# Altium schematic symbol library Schematic_Library.SchLib: 38 symbols (part 1 of 2)
Pins are listed as number, name and electrical type; pins without a type are passive.

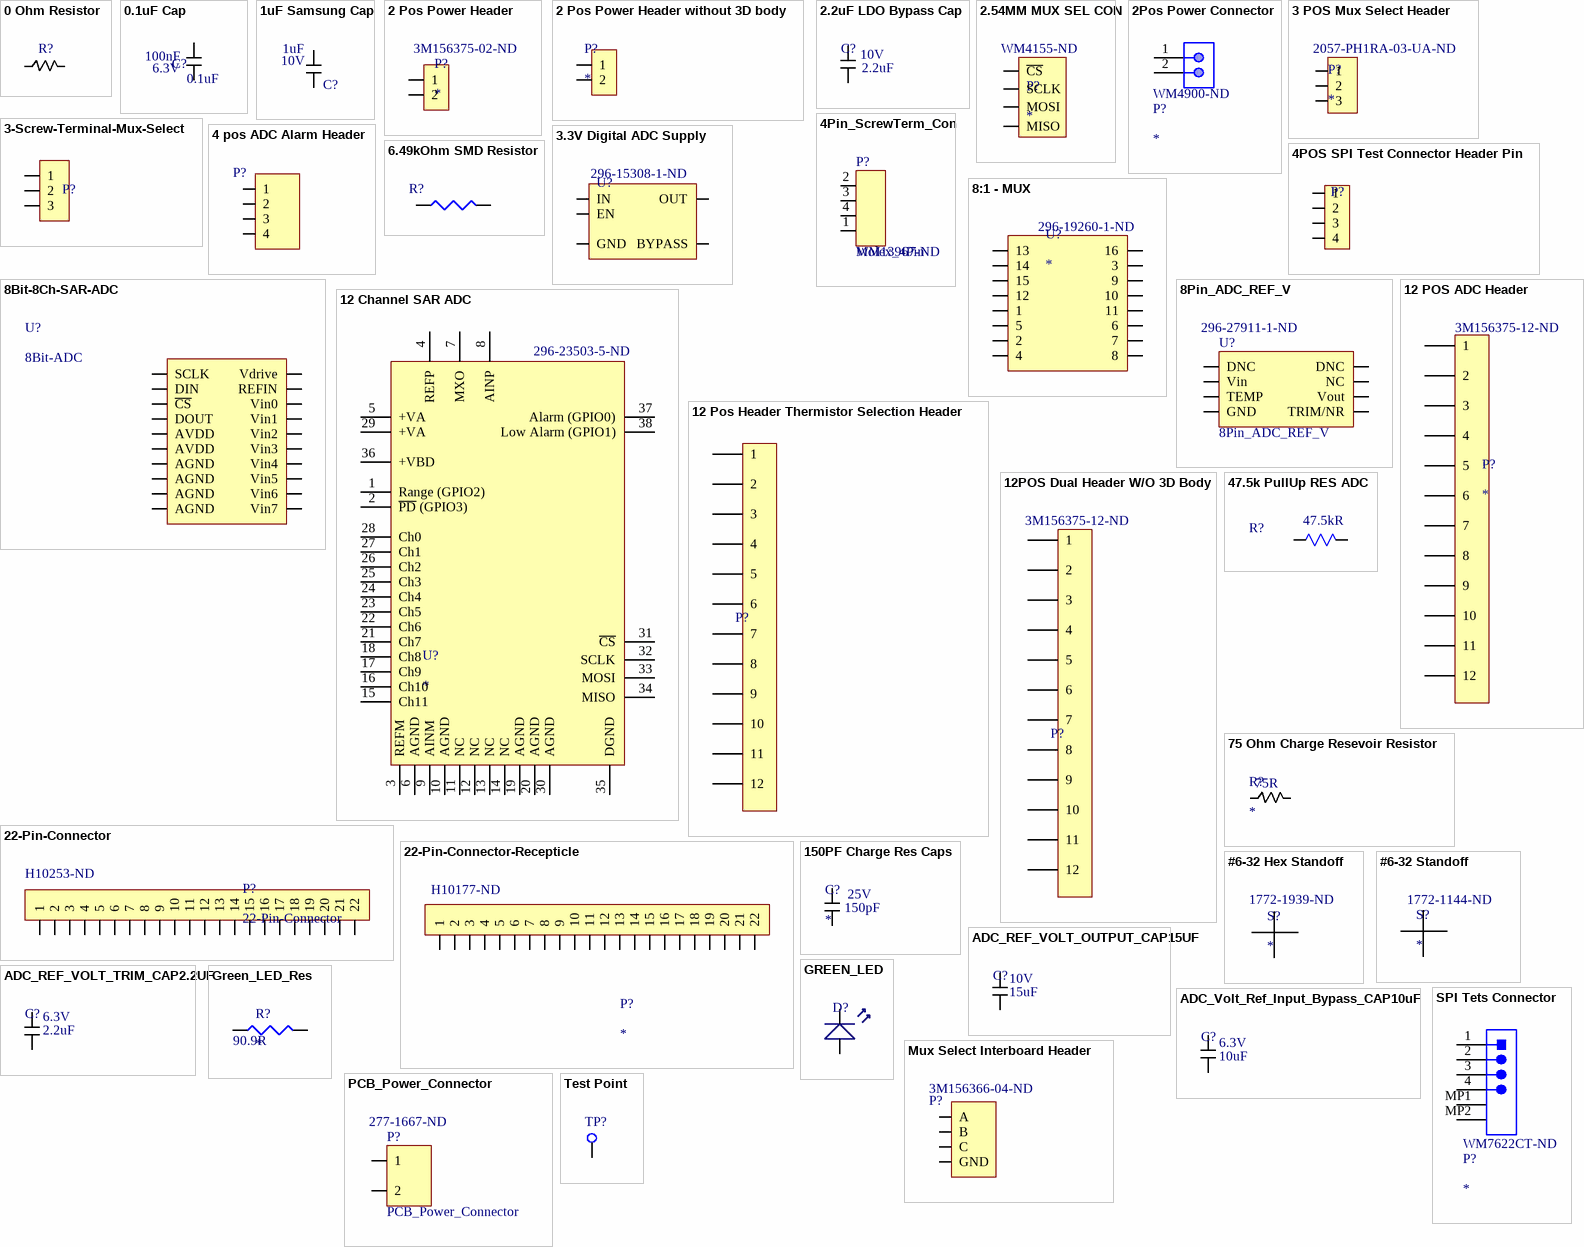
[diagram p0: symbols 0 Ohm Resistor to Test Point]

## 0 Ohm Resistor
designator R?  (value not drawn)
0 Ohm Resistor for connecting polygon pours
footprint 0 Ohm Resistor
pins: 1, 2

## 0.1uF Cap
designator C?, comment 0.1uF  Capacitance: 100nF  Voltage Rating: 6.3V
0.1uF Bypass Cap; Manufacturer: KEMET; Manufacturer Part Number: C0603C104K9RACTU; Dielectric Material: Ceramic; Tolerance: 10%; Dielectric: X7R; Dissipation Factor: 5%; RoHS: Yes; Mount: Surface Mount; Case/Package: 0603; Case Code (Imperial): 0603; Case Code (Metric): 1608; Min Operating Temperature: -55°C; Max Operating Temperature: 125°C; Package Quantity: 4000; Packaging: Tape and Reel; Voltage Rating (DC): 6.3V; Termination: SMD/SMT; Length: 1.6mm; Height: 0.8mm; Width: 0.8mm; Thickness: 0.034inch; ComponentLink1URL: https://datasheet.ciiva.com/13371/kem-c1002-x7r-smd-357932-13371879.pdf?src-supplier=Mouser; ComponentLink1Description: https://datasheet.ciiva.com/13371/kem-c1002-x7r-smd-357932-13371879.pdf?src-supplier=Mouser; Supplier 1: Digi-Key; Stock 1: 758; Pricing 1: 1=0.19000, 10=0.13800, 100=0.06480, 500=0.04546, 1000=0.03763 (USD); Supplier Part Number 1: 399-15351-1-ND
footprint 0.1uF Bypass Capacitor (Chip Capacitor, 2-Leads, Body 1.60x0.80mm, IPC Medium Density)
pins: 1, 2

## 1uF Samsung Cap
designator C?, comment Voltage Rating: 10V  (hidden comment: 1uF)
1uF Samsung Cap; Manufacturer Part Number: CL10B105KP8NNNC; Tolerance: 10%; Dielectric: X7R; Manufacturer: Samsung; Mount: Surface Mount; Case/Package: 0603; Case Code (Metric): 1608; Case Code (Imperial): 0603; Contact Plating: Tin; Min Operating Temperature: -55°C; Max Operating Temperature: 125°C; Package Quantity: 1; Packaging: Tape and Reel; Voltage Rating (DC): 10V; Length: 1.6mm; Height: 0.8mm; Width: 0.031inch; Thickness: 0.035inch; Depth: 0.8mm; Radiation Hardening: No; Lead Free: Lead Free; ComponentLink1URL: https://media.digikey.com/pdf/Data%20Sheets/Samsung%20PDFs/CL_Series_MLCC_ds.pdf?src-supplier=Digi-Key; ComponentLink1Description: https://media.digikey.com/pdf/Data%20Sheets/Samsung%20PDFs/CL_Series_MLCC_ds.pdf?src-supplier=Digi-Key; ComponentLink2URL: http://www1.futureelectronics.com/doc/SAMSUNG/CL10B105KP8NNNC.pdf?src-supplier=Future+Electronics; ComponentLink2Description: http://www1.futureelectronics.com/doc/SAMSUNG/CL10B105KP8NNNC.pdf?src-supplier=Future+Electronics; ComponentLink3URL: https://www.verical.com/server-webapp/html/getDatasheet?partID=358410&src-supplier=Verical; ComponentLink3Description: https://www.verical.com/server-webapp/html/getDatasheet?partID=358410&src-supplier=Verical; Supplier 1: Digi-Key; Stock 1: 10781730; Pricing 1: 1=0.1, 10=0.052, 100=0.0233, 500=0.0166, 1000=0.0131 (USD); Supplier Part Number 1: 1276-1946-1-ND; Capacitance: 1uF
footprint 1uf_Samsung
pins: 1, 2

## 2 Pos Power Header
designator P?  Supplier Part Number 1: 3M156375-02-ND
Manufacturer: 3M; Manufacturer Part Number: 929715-06-01-EU; Gender: Male; Number of Positions: 2; Connector Type: Male Pin; Current Rating: 2.5A; Pitch: 2.54mm; Row Spacing: 0.1inch; Supplier 1: Digi-Key; Stock 1: 0; Pricing 1: 1=0.43000, 10=0.40200, 25=0.34480, 50=0.29300, 100=0.28160, 250=0.25284, 500=0.24136 (USD); RoHS: Yes; Mount: Through Hole; Contact Plating: Gold; Color: Black; Contact Material: Copper Alloy; Housing Material: Polycyclohexylenedimethylene; Min Operating Temperature: -40°C; Max Operating Temperature: 105°C; Number of Rows: 2; Packaging: Bulk; Termination: Solder; Package Quantity: 1000; Contact Gender: Male; Contact Mating Length: 0.318inch; ComponentLink1URL: https://datasheet.ciiva.com/5147/ts0769-35914-5147696.pdf?src-supplier=Mouser; ComponentLink1Description: https://datasheet.ciiva.com/5147/ts0769-35914-5147696.pdf?src-supplier=Mouser; ComponentLink2URL: https://datasheet.ciiva.com/6818/ts0769-6818155.pdf?src-supplier=Digi-Key; ComponentLink2Description: https://datasheet.ciiva.com/6818/ts0769-6818155.pdf?src-supplier=Digi-Key
footprint 2 POS Power Header (Connecting Power between boards)
pins: 1, 2

## 2 Pos Power Header without 3D body
designator P?
No supplier part for this schematic symbol, only here to create board to board holes for the power header
footprint 2 Pos Power Header - duplicate (Without 3D body,)
pins: 1, 2

## 2.2uF LDO Bypass Cap
designator C?  Capacitance: 2.2uF  Voltage Rating: 10V  (hidden comment: *)
2.2µF ±10% 10V Ceramic Capacitor X7R 0805 (2012 Metric); Manufacturer: KEMET; Manufacturer Part Number: C0805C225K8RACAUTO; Supplier 1: Digi-Key; Stock 1: 53616; Pricing 1: 1=0.25000, 10=0.17200, 100=0.09770, 500=0.06898, 1000=0.06035 (USD); RoHS: Yes; Mount: Surface Mount; Case/Package: 0805; Case Code (Metric): 2012; Case Code (Imperial): 0805; Dielectric Material: Ceramic; Min Operating Temperature: -55°C; Max Operating Temperature: 125°C; Tolerance: 10%; Package Quantity: 1; Packaging: Cut Tape; Dielectric: X7R; Voltage Rating (DC): 10V; Length: 2mm; Height: 1.25mm; Width: 0.049inch; Thickness: 0.055inch; Depth: 1.25mm; Ratings: AEC-Q200; Radiation Hardening: No; REACH SVHC: No SVHC; ComponentLink1URL: http://www.farnell.com/datasheets/2741162.pdf?src-supplier=Farnell; ComponentLink1Description: http://www.farnell.com/datasheets/2741162.pdf?src-supplier=Farnell; ComponentLink2URL: http://components.arrow.com/part/dataview/0323_00327875?src-supplier=Arrow+Europe; ComponentLink2Description: http://components.arrow.com/part/dataview/0323_00327875?src-supplier=Arrow+Europe; ComponentLink3URL: http://components.arrow.com/part/dataview/43510464S9781270N7429?src-supplier=Arrow; ComponentLink3Description: http://components.arrow.com/part/dataview/43510464S9781270N7429?src-supplier=Arrow; ComponentLink4URL: http://www.farnell.com/datasheets/2741162.pdf?src-supplier=Newark; ComponentLink4Description: http://www.farnell.com/datasheets/2741162.pdf?src-supplier=Newark; ComponentLink5URL: http://www.farnell.com/datasheets/2120827.pdf?src-supplier=Element14; ComponentLink5Description: http://www.farnell.com/datasheets/2120827.pdf?src-supplier=Element14; ComponentLink6URL: http://capacitoredge.kemet.com/capedge2/DataSheet?pn=C0805C225K8RACAUTO&src-supplier=Avnet+Europe; ComponentLink6Description: http://capacitoredge.kemet.com/capedge2/DataSheet?pn=C0805C225K8RACAUTO&src-supplier=Avnet+Europe; ComponentLink7URL: https://search.kemet.com/component-edge/download/specsheet/C0805C225K8RACAUTO.pdf?src-supplier=Digi-Key; ComponentLink7Description: https://search.kemet.com/component-edge/download/specsheet/C0805C225K8RACAUTO.pdf?src-supplier=Digi-Key; ComponentLink8URL: https://api.kemet.com/component-edge/download/datasheet/C0805C225K8RACAUTO.pdf?src-supplier=Digi-Key; ComponentLink8Description: https://api.kemet.com/component-edge/download/datasheet/C0805C225K8RACAUTO.pdf?src-supplier=Digi-Key; Supplier Part Number 1: 399-6951-1-ND
footprint 2.2uF LDO Output Bypass Cap (2.2µF ±10% 10V Ceramic Capacitor X7R 0805 (2012 Metric))
pins: 1, 2

## 2.54MM MUX SEL CON
designator P?  Supplier Part Number 1: WM4155-ND
SPI Connector; Manufacturer: Molex; Manufacturer Part Number: 0705530108; Contact Resistance: 30mR; Number of Positions: 4; Connector Type: Male Pin; Pitch: 0.1inch; Voltage Rating: 250V; Current Rating: 3A; Gender: Male; Insulation Resistance: 1GR; Glow Wire Compliant: Non-compliant; Supplier 1: Digi-Key; Stock 1: 1281; Mount: Through Hole; Contact Plating: Gold; Contact Material: Bronze; Housing Material: Polyester; Color: Black; Housing Color: Black; Min Operating Temperature: -40°C; Max Operating Temperature: 105°C; Number of Rows: 1; Packaging: Rail/Tube; Termination: Solder; Orientation: Right Angle; Fastening Type: Latch; Length: 12.71mm; Contact Mating Length: 0.24inch; Depth: 13.59mm; Radiation Hardening: No; ComponentLink1URL: https://www.molex.com/pdm_docs/ps/PS-70400.pdf?src-supplier=Digi-Key; ComponentLink1Description: https://www.molex.com/pdm_docs/ps/PS-70400.pdf?src-supplier=Digi-Key; ComponentLink2URL: http://www.molex.com/webdocs/datasheets/pdf/en-us/0705530108_PCB_HEADERS.pdf?src-supplier=Avnet+Asia; ComponentLink2Description: http://www.molex.com/webdocs/datasheets/pdf/en-us/0705530108_PCB_HEADERS.pdf?src-supplier=Avnet+Asia; Pricing 1: 1=2.03, 10=1.838, 100=1.575, 500=1.3125, 1680=1.0875, 5040=0.9975, 10080=0.975 (USD); Material: Brass; Package Quantity: 1680; Number of Contacts: 4; Voltage Rating (DC): 250V; Number of Circuits: 4; REACH SVHC: Unknown; ELV: Compliant; Flammability Rating: UL94 V-0; ComponentLink3URL: http://www.farnell.com/datasheets/2027073.pdf?src-supplier=Element14; ComponentLink3Description: http://www.farnell.com/datasheets/2027073.pdf?src-supplier=Element14; ComponentLink4URL: http://www.molex.com/webdocs/datasheets/pdf/en-us/0705530108_PCB_HEADERS.pdf?src-supplier=Avnet; ComponentLink4Description: http://www.molex.com/webdocs/datasheets/pdf/en-us/0705530108_PCB_HEADERS.pdf?src-supplier=Avnet; ComponentLink5URL: http://www.mouser.com/ds/2/276/0705530108_PCB_HEADERS-172949.pdf?src-supplier=Mouser; ComponentLink5Description: http://www.mouser.com/ds/2/276/0705530108_PCB_HEADERS-172949.pdf?src-supplier=Mouser
footprint 4POS 2.54MM HEADER MUX SEL
pins: 1 MISO, 2 MOSI, 3 SCLK, 4 ~{CS}

## 2Pos Power Connector
designator P?  Supplier Part Number 1: WM4900-ND
Headers & Wire Housings R/A HDR 2P low profile single; Manufacturer: Molex; Manufacturer Part Number: 70553-0001; Current Rating: 3A; Voltage Rating: 250V; Contact Resistance: 30mR; Number of Positions: 2; Gender: Male; Insulation Resistance: 1GR; Pitch: 2.54mm; Approvals: UL; Glow Wire Compliant: Non-compliant; Supplier 1: Digi-Key; Stock 1: 8671; Pricing 1: 1=0.71000, 72=0.53486, 144=0.51264, 504=0.44575, 1008=0.36775, 5040=0.32318, 10008=0.30089 (USD); RoHS: Yes; Mount: Through Hole; Contact Material: Bronze; Contact Plating: Gold; Color: Black; Housing Color: Black; Material: Brass; Housing Material: Thermoplastic; Min Operating Temperature: -40°C; Max Operating Temperature: 105°C; Package Quantity: 2880; Number of Rows: 1; Packaging: Rail/Tube; Termination: Through Hole; Number of Contacts: 2; Orientation: Right Angle; Number of Circuits: 2; Voltage Rating (DC): 250V; Radiation Hardening: No; REACH SVHC: Unknown; Lead Free: Lead Free; Flammability Rating: UL94 V-0; ELV: Compliant; ComponentLink1URL: https://datasheet.ciiva.com/5158/0705530001-pcb-headers-172944-5158768.pdf?src-supplier=Mouser; ComponentLink1Description: https://datasheet.ciiva.com/5158/0705530001-pcb-headers-172944-5158768.pdf?src-supplier=Mouser; ComponentLink2URL: https://datasheet.ciiva.com/11746/0900766b80d8d649-11746625.pdf?src-supplier=RSComponents; ComponentLink2Description: https://datasheet.ciiva.com/11746/0900766b80d8d649-11746625.pdf?src-supplier=RSComponents; ComponentLink3URL: https://datasheet.ciiva.com/16657/0705530001-pcb-headers-16657777.pdf?src-supplier=Avnet+Europe; ComponentLink3Description: https://datasheet.ciiva.com/16657/0705530001-pcb-headers-16657777.pdf?src-supplier=Avnet+Europe; ComponentLink4URL: https://datasheet.ciiva.com/7920/ps-70541-7920854.pdf?src-supplier=Element14; ComponentLink4Description: https://datasheet.ciiva.com/7920/ps-70541-7920854.pdf?src-supplier=Element14; ComponentLink5URL: https://datasheet.ciiva.com/30195/179180705530001-pcb-headers-30195548.pdf?src-supplier=Onlinecomponents.com; ComponentLink5Description: https://datasheet.ciiva.com/30195/179180705530001-pcb-headers-30195548.pdf?src-supplier=Onlinecomponents.com; ComponentLink6URL: https://datasheet.ciiva.com/1438/1887076-1438989.pdf?src-supplier=Element14; ComponentLink6Description: https://datasheet.ciiva.com/1438/1887076-1438989.pdf?src-supplier=Element14; ComponentLink7URL: https://datasheet.ciiva.com/10090/0705530001-pcb-headers-10090317.pdf?src-supplier=Avnet; ComponentLink7Description: https://datasheet.ciiva.com/10090/0705530001-pcb-headers-10090317.pdf?src-supplier=Avnet
footprint 2Pos Power Connector
pins: 1, 2

## 3 POS Mux Select Header
designator P?  Supplier Part Number 1: 2057-PH1RA-03-UA-ND
Mux Sel Header TP; Manufacturer: Adam Equipment; Manufacturer Part Number: PH1RA-03-UA; ComponentLink1URL: https://datasheet.ciiva.com/16476/page-292-295-16476086.pdf?src-supplier=Future+Electronics; ComponentLink1Description: https://datasheet.ciiva.com/16476/page-292-295-16476086.pdf?src-supplier=Future+Electronics; ComponentLink2URL: https://datasheet.ciiva.com/7844/1839348-7844064.pdf?src-supplier=Element14; ComponentLink2Description: https://datasheet.ciiva.com/7844/1839348-7844064.pdf?src-supplier=Element14; ComponentLink3URL: https://datasheet.ciiva.com/30056/8400705530108-pcb-headers-30056885.pdf?src-supplier=Onlinecomponents.com; ComponentLink3Description: https://datasheet.ciiva.com/30056/8400705530108-pcb-headers-30056885.pdf?src-supplier=Onlinecomponents.com; ComponentLink4URL: https://datasheet.ciiva.com/5153/0705530108-pcb-headers-172949-5153278.pdf?src-supplier=Mouser; ComponentLink4Description: https://datasheet.ciiva.com/5153/0705530108-pcb-headers-172949-5153278.pdf?src-supplier=Mouser; ComponentLink5URL: https://datasheet.ciiva.com/10088/0705530108-pcb-headers-10088822.pdf?src-supplier=Avnet; ComponentLink5Description: https://datasheet.ciiva.com/10088/0705530108-pcb-headers-10088822.pdf?src-supplier=Avnet; RoHS: Yes; Lead Free: Lead Free; Supplier 1: Digi-Key; Stock 1: 1048; Pricing 1: 1=0.12000, 10=0.11400, 100=0.07030, 500=0.05818, 1000=0.05090, 5000=0.04363, 10000=0.04242 (USD)
footprint Mux Select 3 Pos Header Pin
pins: 1, 2, 3

## 3-Screw-Terminal-Mux-Select
designator P?  (value not drawn)
Mux Select; Manufacturer: Wurth Electronics; Manufacturer Part Number: 691103110003; Voltage Rating: 125V; Current Rating: 10A; Number of Levels: 1; Number of Positions Per Level: 3; Wire/Cable Gauge: 26AWG; Pitch: 0.138inch; Stripping Length: -6mm; Supplier 1: Digi-Key; Stock 1: 617; Pricing 1: 1=1.1, 10=0.986, 50=0.851, 100=0.762, 500=0.717, 980=0.672 (USD); Contact Material: Brass; Color: Blue; Housing Material: Nylon; Number of Contacts: 3; Termination: Screw; Length: 7mm; Height: 12.2mm; Width: 11.5mm; REACH SVHC: Unknown; ComponentLink1URL: http://www.farnell.com/datasheets/1442217.pdf?src-supplier=Element14; ComponentLink1Description: http://www.farnell.com/datasheets/1442217.pdf?src-supplier=Element14; Supplier Part Number 1: 732-2746-ND
footprint 3-Screw-terminal-Mux-Select
pins: 1 "Output1", 2 "Output1", 3 "Output1"

## 3.3V Digital ADC Supply
designator U?  Supplier Part Number 1: 296-15308-1-ND  (hidden comment: *)
Linear Voltage Regulator IC  1 Output  200mA SOT-23-5; Manufacturer: Texas Instruments; Manufacturer Part Number: TPS79333DBVRQ1; Output Voltage: 3.3V; Number of Outputs: 1; Max Supply Voltage: 5.5V; Min Supply Voltage: 2.7V; Dropout Voltage: 102mV; Max Power Dissipation: 561mW; Input Bias Current: 170uA; Min Current Limit: 285mA; Polarity: Positive; Quiescent Current: 200uA; Output Voltage Accuracy: 2%; Output Type: Fixed; Supplier 1: Digi-Key; Stock 1: 3595; Pricing 1: 1=0.86000, 10=0.75600, 100=0.53820, 500=0.43510, 1000=0.33205 (USD); RoHS: Yes; Case/Package: SOT-23; Number of Pins: 5; Contact Plating: Gold; Min Operating Temperature: -40°C; Max Operating Temperature: 125°C; Package Quantity: 1; Output Current: 200mA; Packaging: Tape and Reel; Nominal Output Voltage: 3.3V; Max Output Current: 200mA; Max Input Voltage: 5.5V; Min Input Voltage: 2.7V; Number of Regulators: 1; Power Dissipation: 561mW; Min Output Voltage: 3.3V; Max Output Voltage: 3.3V; Termination: SMD/SMT; Accuracy: 2%; Radiation Hardening: No; Lead Free: Lead Free; REACH SVHC: No SVHC; ComponentLink1URL: https://datasheet.ciiva.com/14277/tps79301-q1-14277552.pdf?src-supplier=Avnet; ComponentLink1Description: https://datasheet.ciiva.com/14277/tps79301-q1-14277552.pdf?src-supplier=Avnet; ComponentLink2URL: https://datasheet.ciiva.com/22700/1845238-22700085.pdf?src-supplier=Element14; ComponentLink2Description: https://datasheet.ciiva.com/22700/1845238-22700085.pdf?src-supplier=Element14; ComponentLink3URL: https://datasheet.ciiva.com/7993/1781686-7993219.pdf?src-supplier=Element14; ComponentLink3Description: https://datasheet.ciiva.com/7993/1781686-7993219.pdf?src-supplier=Element14; ComponentLink4URL: https://datasheet.ciiva.com/28684/1887604-28684539.pdf?src-supplier=Element14; ComponentLink4Description: https://datasheet.ciiva.com/28684/1887604-28684539.pdf?src-supplier=Element14
footprint 3.3V Dig ADC Supply (Linear Voltage Regulator IC  1 Output  200mA SOT-23-5)
pins: 1 IN, 2 GND, 3 EN, 4 BYPASS, 5 OUT

## 4 pos ADC Alarm Header
designator P?  (value not drawn)
Connector Header Through Hole, Right Angle 4 position 0.100" (2.54mm); Manufacturer: Molex; Manufacturer Part Number: 0705530108; Contact Resistance: 30mR; Number of Positions: 4; Connector Type: Male Pin; Pitch: 0.1inch; Supplier 1: Digi-Key; Stock 1: 858; Pricing 1: 1=2.03000, 10=1.83800, 100=1.57500, 500=1.31250, 1000=1.12500, 5000=0.99750, 10000=0.97500 (USD); RoHS: Yes; Mount: Through Hole; Contact Plating: Gold; Contact Material: Bronze; Housing Material: Polyester; Color: Black; Housing Color: Black; Min Operating Temperature: -40°C; Max Operating Temperature: 105°C; Number of Rows: 1; Packaging: Rail/Tube; Termination: Solder; Orientation: Right Angle; Fastening Type: Latch; Length: 12.71mm; Contact Mating Length: 0.24inch; Depth: 13.59mm; Radiation Hardening: No; ComponentLink1URL: https://datasheet.ciiva.com/6829/705530106-sd-6829901.pdf?src-supplier=Digi-Key; ComponentLink1Description: https://datasheet.ciiva.com/6829/705530106-sd-6829901.pdf?src-supplier=Digi-Key; ComponentLink2URL: https://datasheet.ciiva.com/16498/0705530108-pcb-headers-16498173.pdf?src-supplier=Avnet+Asia; ComponentLink2Description: https://datasheet.ciiva.com/16498/0705530108-pcb-headers-16498173.pdf?src-supplier=Avnet+Asia; Supplier Part Number 1: WM4155-ND
footprint 4POS 2.54MM HEADER MUX SEL
pins: 1, 2, 3, 4

## 4Pin_ScrewTerm_Con
designator P?, comment Molex_4Pin  Supplier Part Number 1: WM13967-ND
Supplier 1: Digi-Key
footprint MUX_SEL_CON
pins: 1, 2, 3, 4

## 4POS SPI Test Connector Header Pin
designator P?  (value not drawn)
Connector Header Through Hole, Right Angle 4 position 0.100" (2.54mm); Manufacturer: TE Connectivity; Manufacturer Part Number: 640455-4; Underplate Material: Nickel; Contact Resistance: 6mR; Current Rating: 5A; Voltage Rating: 250V; Number of Positions: 4; Connector Type: Plug,Header,Pin; Backwall/Post Interruptions: No (Without); Connector System: Wire-to-Board; Plating Thickness: 3.81um; PCB Mount Retention: Without; Contact Post Length: 3.56mm; PCB Thickness: 0.063inch; Approvals: CSA; Supplier 1: Digi-Key; Stock 1: 4333; Pricing 1: 1=0.14000, 10=0.12700, 100=0.08780, 500=0.07430, 1000=0.06080, 5000=0.05404, 10000=0.05066 (USD); RoHS: Yes; Mount: Through Hole; Contact Material: Copper Alloy; Contact Plating: Tin; Color: Natural,Beige; Housing Color: Natural; Housing Material: Polyester; Contact Shape: Square; Min Operating Temperature: -67°C; Max Operating Temperature: 221°C; Number of Rows: 1; Packaging: Bulk; Package Quantity: 1; Contact Gender: Male; Max Voltage Rating (AC): 250V; Termination: Solder; Number of Contacts: 4; Orientation: Right Angle; Voltage Rating (AC): 250V; Contact Retention: No (Without); Mating Alignment: No (Without); Mating Retention: No (Without); PCB Mount Alignment: No (Without); PCB Mounting Orientation: Right Angle; Sealable: No (Without); Strain Relief: No (Without); Shrouded: No (Without); Contact Current Rating: 5A; Length: 0.4inch; Height: 7.75mm; Pitch: 2.54mm; Contact Mating Length: 0.295inch; Depth: 11.05mm; Tail Length: 3.56mm; Radiation Hardening: No; REACH SVHC: Unknown; Flammability Rating: UL94 V-0; ELV: Compliant; Lead Free: Lead Free; ComponentLink1URL: https://datasheet.ciiva.com/16499/eng-ds-82056-mta-0608-16499288.pdf?src-supplier=Future+Electronics; ComponentLink1Description: https://datasheet.ciiva.com/16499/eng-ds-82056-mta-0608-16499288.pdf?src-supplier=Future+Electronics; ComponentLink2URL: https://datasheet.ciiva.com/11752/0900766b81020fb4-11752965.pdf?src-supplier=RSComponents; ComponentLink2Description: https://datasheet.ciiva.com/11752/0900766b81020fb4-11752965.pdf?src-supplier=RSComponents; ComponentLink3URL: https://datasheet.ciiva.com/30226/8852eng-ds-82056-mta-0608-30226713.pdf?src-supplier=Onlinecomponents.com; ComponentLink3Description: https://datasheet.ciiva.com/30226/8852eng-ds-82056-mta-0608-30226713.pdf?src-supplier=Onlinecomponents.com; ComponentLink4URL: https://datasheet.ciiva.com/709/eng-cd-640455-y2-709686.pdf?src-supplier=Digi-Key; ComponentLink4Description: https://datasheet.ciiva.com/709/eng-cd-640455-y2-709686.pdf?src-supplier=Digi-Key; Supplier Part Number 1: A19452-ND
footprint 4POS SPI Test Connector
pins: 1, 2, 3, 4

## 6.49kOhm SMD Resistor
designator R?  (value not drawn)
ADC Bias Resistor; Manufacturer: Panasonic; Manufacturer Part Number: ERA6AEB6491V; Tolerance: 0.1%; Resistance: 6.49kR; Temperature Coefficient: 25ppm/°C; Power Rating: 125mW; Voltage Rating: 100V; Supplier 1: Digi-Key; Stock 1: 15147; Pricing 1: 1=0.36, 10=0.302, 100=0.1182, 1000=0.0495, 2500=0.0454 (USD); Mount: Surface Mount; Case/Package: 0805; Number of Pins: 2; Contact Plating: Tin; Case Code (Metric): 2012; Case Code (Imperial): 0805; Min Operating Temperature: -55°C; Max Operating Temperature: 155°C; Composition: Thin Film,Metal Film; Packaging: Tape and Reel; Package Quantity: 1; Number of Terminations: 2; Termination: SMD/SMT; Military Standard: Not; Max Power Dissipation: 125mW; Voltage Rating (DC): 100V; Features: Automotive AEC-Q200; Length: 2mm; Height: 0.5mm; Width: 1.25mm; Depth: 1.25mm; Radiation Hardening: No; REACH SVHC: No SVHC; Lead Free: Lead Free; ComponentLink1URL: http://www.farnell.com/datasheets/485442.pdf?src-supplier=Farnell; ComponentLink1Description: http://www.farnell.com/datasheets/485442.pdf?src-supplier=Farnell; ComponentLink2URL: http://www.mouser.com/ds/2/315/AOA0000CE26-32660.pdf?src-supplier=Mouser; ComponentLink2Description: http://www.mouser.com/ds/2/315/AOA0000CE26-32660.pdf?src-supplier=Mouser; ComponentLink3URL: http://www.farnell.com/datasheets/2059650.pdf?src-supplier=Farnell; ComponentLink3Description: http://www.farnell.com/datasheets/2059650.pdf?src-supplier=Farnell; ComponentLink4URL: http://uk.rs-online.com/webdocs/0eb1/0900766b80eb1d8c.pdf?src-supplier=RSComponents; ComponentLink4Description: http://uk.rs-online.com/webdocs/0eb1/0900766b80eb1d8c.pdf?src-supplier=RSComponents; ComponentLink5URL: http://www.farnell.com/datasheets/485442.pdf?src-supplier=Element14; ComponentLink5Description: http://www.farnell.com/datasheets/485442.pdf?src-supplier=Element14; ComponentLink6URL: http://www.produktinfo.conrad.com/datenblaetter/1100000-1199999/001181295-da-01-en-WIDERSTAND_ERA_0805_6K49_0_1__5000ST.pdf?src-supplier=Conrad; ComponentLink6Description: http://www.produktinfo.conrad.com/datenblaetter/1100000-1199999/001181295-da-01-en-WIDERSTAND_ERA_0805_6K49_0_1__5000ST.pdf?src-supplier=Conrad; Supplier Part Number 1: P6.49KDACT-ND
footprint RESC2012X06N (Chip Resistor, 2-Leads, Body 2.00x1.25mm, IPC Medium Density)
pins: 1, 2

## 8:1 - MUX
designator U?  Supplier Part Number 1: 296-19260-1-ND
Current Therm 8:1 Mux; Manufacturer: Texas Instruments; Manufacturer Part Number: SN74LV4051ATPWRQ1; Max Supply Voltage: 5.5V; Min Supply Voltage: 2V; Bandwidth: 35MHz; Propagation Delay: 7ns; Number of Channels: 1; Number of Inputs: 8; Logic Function: Multiplexer,Demultiplexer; On-State Resistance: 75R; Operating Supply Current: 20uA; Turn-On Delay Time: 20ns; Supply Type: Single; High Level Output Current: 25mA; Supplier 1: Digi-Key; Stock 1: 41099; Pricing 1: 1=0.73, 10=0.646, 100=0.4951, 500=0.3914, 1000=0.3131 (USD); Mount: Surface Mount; Case/Package: TSSOP; Number of Pins: 16; Weight: 0.002169oz; Contact Plating: Gold; Min Operating Temperature: -40°C; Max Operating Temperature: 105°C; Package Quantity: 1; Packaging: Tape and Reel; Number of Outputs: 1; Turn-Off Delay Time: 20ns; Number of Circuits: 1; Number of Bits: 8; Low Level Output Current: 25mA; Radiation Hardening: No; REACH SVHC: No SVHC; Lead Free: Lead Free; ComponentLink1URL: http://www.ti.com/lit/ds/symlink/sn74lv4051a-q1.pdf?src-supplier=Digi-Key; ComponentLink1Description: http://www.ti.com/lit/ds/symlink/sn74lv4051a-q1.pdf?src-supplier=Digi-Key; ComponentLink2URL: http://www.ti.com/lit/gpn/sn74lv4051a-q1?src-supplier=Mouser; ComponentLink2Description: http://www.ti.com/lit/gpn/sn74lv4051a-q1?src-supplier=Mouser; ComponentLink3URL: https://www.verical.com/server-webapp/html/getDatasheet?partID=137249&src-supplier=Verical; ComponentLink3Description: https://www.verical.com/server-webapp/html/getDatasheet?partID=137249&src-supplier=Verical; ComponentLink4URL: http://focus.ti.com/lit/ds/symlink/sn74lv4051a-q1.pdf?src-supplier=Avnet; ComponentLink4Description: http://focus.ti.com/lit/ds/symlink/sn74lv4051a-q1.pdf?src-supplier=Avnet; ComponentLink5URL: http://www.produktinfo.conrad.com/datenblaetter/1100000-1199999/001187277-da-01-en-IC_MUX_DE_SN74LV4051ATPWRQ1_TSSOP_16_TID.pdf?src-supplier=Conrad; ComponentLink5Description: http://www.produktinfo.conrad.com/datenblaetter/1100000-1199999/001187277-da-01-en-IC_MUX_DE_SN74LV4051ATPWRQ1_TSSOP_16_TID.pdf?src-supplier=Conrad
footprint SOP127P600X175 (SOP, 16-Leads, Body 9.90x3.90mm, Pitch 1.27mm, IPC Medium Density)
pins: 1 "Output1", 2 "Output1", 3 "Output1", 4 "Output1", 5 "Output1", 6 "Output1", 7 "Output1", 8 "Output1", 9 "Output1", 10 "Output1", 11 "Output1", 12 "Output1", 13 "Output1", 14 "Output1", 15 "Output1", 16 "Output1"

## 8Bit-8Ch-SAR-ADC
designator U?, comment 8Bit-ADC
8Bit SAR ADC; Manufacturer: Analog Devices; Manufacturer Part Number: AD7908WYRUZ-REEL7; Max Power Dissipation: 13.5mW; Number of Channels: 8; Interface: SPI; Sampling Rate: 1MS/s; Number of A/D Converters: 1; Resolution: 8b; Signal to Noise Ratio (SNR): 49dB; Input Capacitance: 20pF; Max Input Voltage: 2.525V; Min Input Voltage: 2.475V; Supplier 1: Digi-Key; Stock 1: 1000; Pricing 1: 1=5.68, 10=5.1, 100=4.1789 (USD); Case/Package: TSSOP; Number of Pins: 20; Min Operating Temperature: -40°C; Max Operating Temperature: 85°C; Package Quantity: 1000; Packaging: Tape and Reel; Number of Bits: 8; Number of Inputs: 8; Power Dissipation: 13.5mW; Radiation Hardening: No; Lead Free: Contains Lead; ComponentLink1URL: http://www.analog.com/media/en/technical-documentation/data-sheets/AD7908_7918_7928.pdf?src-supplier=Digi-Key; ComponentLink1Description: http://www.analog.com/media/en/technical-documentation/data-sheets/AD7908_7918_7928.pdf?src-supplier=Digi-Key; ComponentLink2URL: http://www.produktinfo.conrad.com/datenblaetter/1200000-1299999/001245580-da-01-en-IC_ADC_8B_AD7908WYRUZ_REEL7_TSSOP_20_ADI.pdf?src-supplier=Conrad; ComponentLink2Description: http://www.produktinfo.conrad.com/datenblaetter/1200000-1299999/001245580-da-01-en-IC_ADC_8B_AD7908WYRUZ_REEL7_TSSOP_20_ADI.pdf?src-supplier=Conrad; Supplier Part Number 1: AD7908WYRUZ-REEL7CT-ND
footprint 8Bit-8Ch-SAR-ADC
pins: 1 SCLK, 2 DIN, 3 ~{CS}, 4 AGND, 5 AVDD, 6 AVDD, 7 REFIN, 8 AGND, 9 Vin7, 10 Vin6, 11 Vin5, 12 Vin4, 13 Vin3, 14 Vin2, 15 Vin1, 16 Vin0, 17 AGND, 18 DOUT, 19 Vdrive, 20 AGND

## 8Pin_ADC_REF_V
designator U?  Supplier Part Number 1: 296-27911-1-ND
Manufacturer: Texas Instruments; Manufacturer Part Number: REF5025AQDRQ1; Max Input Voltage: 18V; Output Voltage: 2.5V; Min Input Voltage: 2.7V; Nominal Supply Current: 800uA; Tolerance: 0.1%; Max Output Current: 10mA; Operating Supply Current: 1.2mA; Temperature Coefficient: 3ppm/°C; Reference Type: Series; Output Type: Fixed; Number of Channels: 1; Case/Package: D; Number of Pins: 8; Weight: 0.002677oz; Min Operating Temperature: -40°C; Max Operating Temperature: 125°C; Packaging: Tape and Reel; Package Quantity: 1; Min Output Voltage: 2.5V; Output Current: 10mA; Max Output Voltage: 2.5V; Quiescent Current: 800uA; Radiation Hardening: No; Lead Free: Lead Free; ComponentLink1URL: http://www.ti.com/lit/ds/symlink/ref5025a-q1.pdf; ComponentLink1Description: http://www.ti.com/lit/ds/symlink/ref5025a-q1.pdf; ComponentLink2URL: http://www.ti.com/lit/ds/symlink/ref5020a-q1.pdf?src-supplier=Digi-Key; ComponentLink2Description: http://www.ti.com/lit/ds/symlink/ref5020a-q1.pdf?src-supplier=Digi-Key; ComponentLink3URL: http://www.ti.com/lit/ds/symlink/ref5030a-q1.pdf?src-supplier=Digi-Key; ComponentLink3Description: http://www.ti.com/lit/ds/symlink/ref5030a-q1.pdf?src-supplier=Digi-Key; Supplier 1: Digi-Key; Stock 1: 16802; Pricing 1: 1=3.54, 10=3.182, 100=2.607, 500=2.2193, 1000=1.8717 (USD)
footprint SOIC127P600X175-8N (SOIC, 8-Leads, Body 4.90x3.90mm, Pitch 1.27mm, IPC Medium Density)
pins: 1 DNC, 2 Vin, 3 TEMP, 4 GND, 5 TRIM/NR, 6 Vout, 7 NC, 8 DNC

## 12 Channel SAR ADC
designator U?  Supplier Part Number 1: 296-23503-5-ND
12 Bit SAR ADC; Manufacturer: Texas Instruments; Manufacturer Part Number: ADS7952SDBT; Min Supply Voltage: 2.7V; Max Supply Voltage: 5.25V; Interface: SPI; Number of Channels: 12; Sampling Rate: 1MS/s; Number of Converters: 1; Resolution: 12b; Polarity: Unipolar; Supply Type: Analog; Integral Nonlinearity (INL): 1.5LSB; Signal to Noise Ratio (SNR): 71.7dB; Power Consumption: 11.5mW; Operating Supply Voltage: 3.3V; Full Scale Error: 2LSB; Power Dissipation: 14.5mW; Nominal Supply Current: 2.3mA; Supplier 1: Digi-Key; Stock 1: 1697; Pricing 1: 1=9.30000, 10=8.40000, 50=8.00940, 100=6.95450, 500=6.05586, 1000=5.27445 (USD); RoHS: Yes; Mount: Surface Mount; Case/Package: TSSOP; Number of Pins: 38; Contact Plating: Gold; Min Operating Temperature: -40°C; Max Operating Temperature: 125°C; Packaging: Rail/Tube; Package Quantity: 50; Number of Bits: 12; Number of Elements: 1; Number of A/D Converters: 1; Number of Analog Inputs: 12; Conversion Rate: 1MS/s; Number of Inputs: 12; Radiation Hardening: No; Lead Free: Lead Free; REACH SVHC: No SVHC; ComponentLink1URL: https://datasheet.ciiva.com/41460/001186285-da-01-en-ic-adc-12bit-1m-ads7952sdbt-tssop-38-tid-41460243.pdf?src-supplier=Conrad; ComponentLink1Description: https://datasheet.ciiva.com/41460/001186285-da-01-en-ic-adc-12bit-1m-ads7952sdbt-tssop-38-tid-41460243.pdf?src-supplier=Conrad; ComponentLink2URL: https://datasheet.ciiva.com/14258/ads7961-14258981.pdf?src-supplier=Avnet; ComponentLink2Description: https://datasheet.ciiva.com/14258/ads7961-14258981.pdf?src-supplier=Avnet; ComponentLink3URL: https://datasheet.ciiva.com/1263/ads7950-1263926.pdf?src-supplier=Digi-Key; ComponentLink3Description: https://datasheet.ciiva.com/1263/ads7950-1263926.pdf?src-supplier=Digi-Key
footprint 12 Channel SAR ADC (TSSOP, 38-Leads, Body 9.70x4.40mm, Pitch 0.50mm, IPC High Density)
pins: 1 Range (GPIO2), 2 ~{PD} (GPIO3), 3 REFM, 4 REFP, 5 +VA, 6 AGND, 7 MXO, 8 AINP, 9 AINM, 10 AGND, 11 NC, 12 NC, 13 NC, 14 NC, 15 Ch11, 16 Ch10, 17 Ch9, 18 Ch8, 19 AGND, 20 AGND, 21 Ch7, 22 Ch6, 23 Ch5, 24 Ch4, 25 Ch3, 26 Ch2, 27 Ch1, 28 Ch0, 29 +VA, 30 AGND, 31 ~{CS}, 32 SCLK, 33 MOSI, 34 MISO, 35 DGND, 36 +VBD, 37 Alarm (GPIO0), 38 Low Alarm (GPIO1)

## 12 POS ADC Header
designator P?  Supplier Part Number 1: 3M156375-12-ND
Interboard connector for thermistors connecting to ADC; Manufacturer: 3M; Manufacturer Part Number: 929715-06-06-EU; Number of Positions: 12; Connector Type: Male Pin; Gender: Male; Pitch: 0.1inch; Supplier 1: Digi-Key; Stock 1: 0; Pricing 1: 1=1.86000, 10=1.69000, 25=1.58600, 50=1.51720, 100=1.44820, 250=1.31024, 500=1.20680 (USD); RoHS: Yes; Mount: Through Hole; Contact Plating: Gold; Color: Black; Number of Rows: 2; Packaging: Bulk; Termination: Solder; Package Quantity: 500; Row Spacing: 0.1inch; Contact Mating Length: 0.318inch; ComponentLink1URL: http://www.mouser.com/ds/2/1/ts0769-35914.pdf?src-supplier=Mouser; ComponentLink1Description: http://www.mouser.com/ds/2/1/ts0769-35914.pdf?src-supplier=Mouser; ComponentLink2URL: http://components.arrow.com/part/dataview/42715320S8912076N3321?src-supplier=Arrow; ComponentLink2Description: http://components.arrow.com/part/dataview/42715320S8912076N3321?src-supplier=Arrow; ComponentLink3URL: http://multimedia.3m.com/mws/mediawebserver?66666UuZjcFSLXTtmXME5x46EVuQEcuZgVs6EVs6E666666--?src-supplier=Digi-Key; ComponentLink3Description: http://multimedia.3m.com/mws/mediawebserver?66666UuZjcFSLXTtmXME5x46EVuQEcuZgVs6EVs6E666666--?src-supplier=Digi-Key; System: Connector
footprint 12 POS Dual Header (Board to Board ADC Channel Header)
pins: 1, 2, 3, 4, 5, 6, 7, 8, 9, 10, 11, 12

## 12 Pos Header Thermistor Selection Header
designator P?  (value not drawn)
Manufacturer: Amphenol FCI; Manufacturer Part Number: 67996-212HLF; Current Rating: 3A; Voltage Rating: 1.5kV; Number of Positions: 12; Insulation Resistance: 5GR; Gender: Male; Connector Type: Male Pin; Pitch: 2.54mm; Row Spacing: 0.1inch; Contact Post Length: 2.41mm; Supplier 1: Digi-Key; Stock 1: 8841; Pricing 1: 1=0.53000, 10=0.49400, 100=0.37900, 500=0.32960, 1000=0.27192, 5000=0.23896, 10000=0.22248 (USD); RoHS: Yes; Mount: Through Hole; Color: Black; Contact Plating: Gold,GXT; Contact Material: Bronze; Housing Color: Black; Housing Material: Thermoplastic; Min Operating Temperature: -65°C; Max Operating Temperature: 125°C; Package Quantity: 100; Number of Rows: 2; Packaging: Bulk; Contact Gender: Male; Termination: Solder; Max Voltage Rating (AC): 1.5kV; Number of Contacts: 12; Orientation: Straight; Length: 15.24mm; Contact Mating Length: 0.23inch; Depth: 4.83mm; REACH SVHC: No SVHC; ComponentLink1URL: https://datasheet.ciiva.com/728/67996-728947.pdf?src-supplier=Digi-Key; ComponentLink1Description: https://datasheet.ciiva.com/728/67996-728947.pdf?src-supplier=Digi-Key; ComponentLink2URL: https://datasheet.ciiva.com/10136/67996-10136811.pdf?src-supplier=Avnet; ComponentLink2Description: https://datasheet.ciiva.com/10136/67996-10136811.pdf?src-supplier=Avnet; Supplier Part Number 1: 609-3213-ND
footprint 12 POS Thermistor Selection Header (Jumpers are placed here to select which pin on ADC header)
pins: 1, 2, 3, 4, 5, 6, 7, 8, 9, 10, 11, 12

## 12POS Dual Header W/O 3D Body
designator P?  Supplier Part Number 1: 3M156375-12-ND  (hidden comment: *)
Connector Header Through Hole 12 position 0.100" (2.54mm); Manufacturer: 3M; Manufacturer Part Number: 929715-06-06-EU; Number of Positions: 12; Gender: Male; Connector Type: Male Pin; Pitch: 0.1inch; Supplier 1: Digi-Key; Stock 1: 0; Pricing 1: 1=1.86000, 10=1.69000, 25=1.58600, 50=1.51720, 100=1.44820, 250=1.31024, 500=1.20680 (USD); RoHS: Yes; Mount: Through Hole; Color: Black; Contact Plating: Gold; Package Quantity: 500; Number of Rows: 2; Packaging: Bulk; Termination: Solder; Row Spacing: 0.1inch; Contact Mating Length: 0.318inch; ComponentLink1URL: http://components.arrow.com/part/dataview/42715320S8912076N3321?src-supplier=Arrow; ComponentLink1Description: http://components.arrow.com/part/dataview/42715320S8912076N3321?src-supplier=Arrow; ComponentLink2URL: http://www.mouser.com/ds/2/1/ts0769-35914.pdf?src-supplier=Mouser; ComponentLink2Description: http://www.mouser.com/ds/2/1/ts0769-35914.pdf?src-supplier=Mouser; ComponentLink3URL: http://multimedia.3m.com/mws/mediawebserver?66666UuZjcFSLXTtmXME5x46EVuQEcuZgVs6EVs6E666666--?src-supplier=Digi-Key; ComponentLink3Description: http://multimedia.3m.com/mws/mediawebserver?66666UuZjcFSLXTtmXME5x46EVuQEcuZgVs6EVs6E666666--?src-supplier=Digi-Key
footprint 12POS Dual Header W/0 3D Body
pins: 1, 2, 3, 4, 5, 6, 7, 8, 9, 10, 11, 12

## 22-Pin-Connector
designator P?  Supplier Part Number 1: H10253-ND
Current Therm Connector; Manufacturer: Hirose; Manufacturer Part Number: DF11-22DP-2DS(24); Number of Contacts: 22; Gender: Male; Connector Type: Male Pin; Contact Resistance: 30mR; Max Current Rating: 2A; Voltage Rating: 250V; Pitch: 2mm; Row Spacing: 0.079inch; Mount: Through Hole; Contact Plating: Tin; Contact Material: Brass,Copper Alloy,Tin; Color: Black; Housing Color: Black; Housing Material: Polyamide; Min Operating Temperature: -30°C; Max Operating Temperature: 85°C; Number of Rows: 2; Termination: Solder; Packaging: Rail/Tube; Package Quantity: 20; Fastening Type: Detent; Number of Positions: 22; Current Rating: 2A; Orientation: Right Angle; Length: 24mm; Height: 5mm; Contact Mating Length: 0.118inch; Depth: 10mm; Radiation Hardening: No; Lead Free: Lead Free; ComponentLink1URL: http://docs-usa.electrocomponents.com/techlib:/itc_doclist_US.htm?stockno=6888963&src-supplier=Allied+Electronics; ComponentLink1Description: http://docs-usa.electrocomponents.com/techlib:/itc_doclist_US.htm?stockno=6888963&src-supplier=Allied+Electronics; ComponentLink2URL: https://www.verical.com/server-webapp/html/getDatasheet?partID=456315&src-supplier=Verical; ComponentLink2Description: https://www.verical.com/server-webapp/html/getDatasheet?partID=456315&src-supplier=Verical; ComponentLink3URL: http://www.hirose.co.jp/cataloge_hp/en_DF11_20130411.pdf?src-supplier=Future+Electronics; ComponentLink3Description: http://www.hirose.co.jp/cataloge_hp/en_DF11_20130411.pdf?src-supplier=Future+Electronics; ComponentLink4URL: http://www.farnell.com/datasheets/91550.pdf?src-supplier=Element14; ComponentLink4Description: http://www.farnell.com/datasheets/91550.pdf?src-supplier=Element14; ComponentLink5URL: http://www.mouser.com/ds/2/185/DF11_catalog-1064296.pdf?src-supplier=Mouser; ComponentLink5Description: http://www.mouser.com/ds/2/185/DF11_catalog-1064296.pdf?src-supplier=Mouser; ComponentLink6URL: http://documents.rs-components.com/techlib://itc_doclist_GB.htm?stockno=6056598&src-supplier=RSComponents; ComponentLink6Description: http://documents.rs-components.com/techlib://itc_doclist_GB.htm?stockno=6056598&src-supplier=RSComponents; Supplier 1: Digi-Key; Stock 1: 3536; Pricing 1: 1=1.19, 20=1.0455, 100=0.902, 500=0.738, 1000=0.656 (USD)
footprint 22-Pin Conenctor
pins: 1, 2, 3, 4, 5, 6, 7, 8, 9, 10, 11, 12, 13, 14, 15, 16, 17, 18, 19, 20, 21, 22

## 22-Pin-Connector-Recepticle
designator P?  Supplier Part Number 1: H10177-ND
Manufacturer: Hirose; Manufacturer Part Number: DF11-22DS-2DSA(05); Contact Resistance: 30mR; Mating Cycles: 30; Voltage Rating (AC): 30V; Current Rating: 2A; Number of Positions: 22; Connector Type: Receptacle; Insulation Resistance: 1GR; Pitch: 2mm; Row Spacing: 0.079inch; Supplier 1: Digi-Key; Stock 1: 843; Pricing 1: 1=1.40000, 10=1.27400, 100=1.09200, 500=0.91000, 1000=0.78000 (USD); RoHS: Yes; Mount: Through Hole; Contact Plating: Tin; Contact Material: Copper; Color: Black; Housing Color: Black; Housing Material: Polyamide; Number of Rows: 2; Contact Gender: Female; Package Quantity: 100; Packaging: Bulk; Termination: Through Hole; Gender: Receptacle; Number of Contacts: 22; Orientation: Straight; Lead Pitch: 2mm; REACH SVHC: No SVHC; Lead Free: Lead Free; Flammability Rating: UL94 V-0; ComponentLink1URL: https://datasheet.ciiva.com/11752/0900766b80d975f3-11752361.pdf?src-supplier=RSComponents; ComponentLink1Description: https://datasheet.ciiva.com/11752/0900766b80d975f3-11752361.pdf?src-supplier=RSComponents; ComponentLink2URL: https://datasheet.ciiva.com/14122/df11serie-eng-tds-14122182.pdf?src-supplier=Distrelec; ComponentLink2Description: https://datasheet.ciiva.com/14122/df11serie-eng-tds-14122182.pdf?src-supplier=Distrelec; ComponentLink3URL: https://datasheet.ciiva.com/5155/en-df11-20130411-258217-5155093.pdf?src-supplier=Mouser; ComponentLink3Description: https://datasheet.ciiva.com/5155/en-df11-20130411-258217-5155093.pdf?src-supplier=Mouser
footprint 22 POS Connector Recepticle
pins: 1, 2, 3, 4, 5, 6, 7, 8, 9, 10, 11, 12, 13, 14, 15, 16, 17, 18, 19, 20, 21, 22

## 47.5k PullUp RES ADC
designator R?  Resistance: 47.5kR  (hidden comment: *)
RES 47.5K OHM 0.5% 1/10W 0603; Manufacturer: Stackpole Electronics; Manufacturer Part Number: RNCF0603DTE47K5; Power Rating: 63mW; Mount: Surface Mount; Case/Package: 0603; Min Operating Temperature: -55°C; Max Operating Temperature: 155°C; Tolerance: 0.5%; Packaging: Tape and Reel; ComponentLink1URL: http://datasheet.octopart.com/RNCF0603DTE47K5-Stackpole-Electronics-datasheet-10788241.pdf?src-supplier=Stackpole+Electronics; ComponentLink1Description: http://datasheet.octopart.com/RNCF0603DTE47K5-Stackpole-Electronics-datasheet-10788241.pdf?src-supplier=Stackpole+Electronics; ComponentLink2URL: http://datasheet.octopart.com/RNCF0603DTE47K5-Stackpole-Electronics-datasheet-12511394.pdf?src-supplier=Stackpole+Electronics; ComponentLink2Description: http://datasheet.octopart.com/RNCF0603DTE47K5-Stackpole-Electronics-datasheet-12511394.pdf?src-supplier=Stackpole+Electronics; ComponentLink3URL: http://datasheet.octopart.com/RNCF0603DTE47K5-Stackpole-Electronics-datasheet-11755897.pdf; ComponentLink3Description: http://datasheet.octopart.com/RNCF0603DTE47K5-Stackpole-Electronics-datasheet-11755897.pdf; Supplier 1: Digi-Key; Stock 1: 5000; Pricing 1: 1=0.15000, 10=0.12700, 100=0.04970, 1000=0.02079, 2500=0.01906 (USD); Supplier Part Number 1: RNCF0603DTE47K5CT-ND
footprint 0603_MD_RES
pins: 1, 2

## 75 Ohm Charge Resevoir Resistor
designator R?  Resistance: 75R
Manufacturer: Rohm; Manufacturer Part Number: KTR03EZPF75R0; Tolerance: 1%; Max Power Dissipation: 100mW; Temperature Coefficient: 100ppm/°C; Supplier 1: Digi-Key; Stock 1: 9052; Pricing 1: 1=0.15000, 10=0.13500, 100=0.05200, 1000=0.02287, 2500=0.01975 (USD); RoHS: Yes; Case/Package: 0603; Case Code (Metric): 1608; Case Code (Imperial): 0603; Min Operating Temperature: -55°C; Max Operating Temperature: 155°C; Package Quantity: 1; Packaging: Cut Tape; Composition: Thick Film; Number of Terminations: 2; Features: Automotive AEC-Q200; Length: 0.063inch; Height: 0.022inch; Width: 0.031inch; ComponentLink1URL: https://datasheet.ciiva.com/14930/ktr-14930245.pdf?src-supplier=Digi-Key; ComponentLink1Description: https://datasheet.ciiva.com/14930/ktr-14930245.pdf?src-supplier=Digi-Key; ComponentLink2URL: https://datasheet.ciiva.com/14924/ktr-14924923.pdf?src-supplier=Digi-Key; ComponentLink2Description: https://datasheet.ciiva.com/14924/ktr-14924923.pdf?src-supplier=Digi-Key; ComponentLink3URL: https://datasheet.ciiva.com/14928/ktr-14928475.pdf?src-supplier=Digi-Key; ComponentLink3Description: https://datasheet.ciiva.com/14928/ktr-14928475.pdf?src-supplier=Digi-Key; Supplier Part Number 1: RHM75AYCT-ND
footprint Chip2PinSM127P600-8N (75 Ohm Charge Resevoir Resistor)
pins: 1, 2

## 150PF Charge Res Caps
designator C?  Capacitance: 150pF  Voltage Rating: 25V
Charge Res Caps for ADC input channels; Manufacturer: KEMET; Manufacturer Part Number: C0402C151J3GAC7867; Tolerance: 5%; ComponentLink1URL: http://components.arrow.com/part/dataview/46126249S9911696N7429?src-supplier=Arrow; ComponentLink1Description: http://components.arrow.com/part/dataview/46126249S9911696N7429?src-supplier=Arrow; ComponentLink2URL: http://www.kemet.com/docfinder?Partnumber=C0402C151J3GACTU&src-supplier=Digi-Key; ComponentLink2Description: http://www.kemet.com/docfinder?Partnumber=C0402C151J3GACTU&src-supplier=Digi-Key; Supplier 1: Digi-Key; Stock 1: 18237; Pricing 1: 1=0.10000, 10=0.04300, 100=0.01920, 500=0.01374, 1000=0.01080, 2500=0.00982, 5000=0.00903 (USD); Mount: Surface Mount; Case/Package: 0402; Case Code (Imperial): 0402; Case Code (Metric): 1005; Min Operating Temperature: -55°C; Max Operating Temperature: 125°C; Packaging: Cut Tape; ComponentLink3URL: https://api.kemet.com/component-edge/download/datasheet/C0402C151J3GACTU.pdf?src-supplier=Digi-Key; ComponentLink3Description: https://api.kemet.com/component-edge/download/datasheet/C0402C151J3GACTU.pdf?src-supplier=Digi-Key; ComponentLink4URL: http://datasheet.octopart.com/C0402C151J3GAC7867-KEMET-datasheet-84169754.pdf; ComponentLink4Description: http://datasheet.octopart.com/C0402C151J3GAC7867-KEMET-datasheet-84169754.pdf; Supplier Part Number 1: 399-14422-1-ND
footprint 150PF Cap Charge Resevoir (Charge Res Caps for ADC Input Channels)
pins: 1, 2

## #6-32 Hex Standoff
designator S?  Supplier Part Number 1: 1772-1939-ND
Hex standoff for Thermistor GND Board; Manufacturer: RAF; Manufacturer Part Number: 2104-632-AL; Gender: Female to Female; Plating: Iridite; RoHS: Yes; Case/Package: Aluminum; Material: Aluminium; Shape: Hex; Length: 0.5inch; ComponentLink1URL: https://datasheet.ciiva.com/18425/70006493-18425850.pdf?src-supplier=Allied+Electronics; ComponentLink1Description: https://datasheet.ciiva.com/18425/70006493-18425850.pdf?src-supplier=Allied+Electronics; ComponentLink2URL: https://datasheet.ciiva.com/30059/2101-1032-b-5-30059595.pdf?src-supplier=Onlinecomponents.com; ComponentLink2Description: https://datasheet.ciiva.com/30059/2101-1032-b-5-30059595.pdf?src-supplier=Onlinecomponents.com; Supplier 1: Digi-Key; Stock 1: 4599; Pricing 1: 1=0.47000, 25=0.31480, 100=0.26780, 250=0.25440, 500=0.24102, 1000=0.22763 (USD); Mount: Hardware; Package Quantity: 100; Packaging: Bulk; REACH SVHC: Unknown; ComponentLink3URL: https://datasheet.ciiva.com/1397/1231553-1397075.pdf?src-supplier=Newark; ComponentLink3Description: https://datasheet.ciiva.com/1397/1231553-1397075.pdf?src-supplier=Newark; ComponentLink4URL: https://datasheet.ciiva.com/5225/2102-632-al-7-197446-5225548.pdf?src-supplier=Mouser; ComponentLink4Description: https://datasheet.ciiva.com/5225/2102-632-al-7-197446-5225548.pdf?src-supplier=Mouser; ComponentLink5URL: https://datasheet.ciiva.com/7921/1231553-7921338.pdf?src-supplier=Element14; ComponentLink5Description: https://datasheet.ciiva.com/7921/1231553-7921338.pdf?src-supplier=Element14; ComponentLink6URL: https://datasheet.ciiva.com/18424/70006411-18424859.pdf?src-supplier=Allied+Electronics; ComponentLink6Description: https://datasheet.ciiva.com/18424/70006411-18424859.pdf?src-supplier=Allied+Electronics
footprint #6-32 GND Standoff (Hex standoff for Thermistor GND PCB)
pins: 1, 1 2, 1 3, 1 4

## #6-32 Standoff
designator S?  Supplier Part Number 1: 1772-1144-ND
Hex Standoff for Thermistor Boards; Manufacturer: RAF; Manufacturer Part Number: 2102T-632-AL-7; Supplier 1: Digi-Key; Stock 1: 1687; Pricing 1: 1=0.5, 25=0.3328, 100=0.2834, 250=0.2692, 500=0.2551, 1000=0.2409 (USD); Package Quantity: 100
footprint #6-32 Stand Off
pins: 1, 1 2, 1 3, 1 4

## ADC_REF_VOLT_OUTPUT_CAP15UF
designator C?  Capacitance: 15uF  Voltage Rating: 10V  (hidden comment: *)
15µF Molded Tantalum Capacitors 10V 1206 (3216 Metric) 1Ohm; Manufacturer: Kyocera AVX; Manufacturer Part Number: TPSA156K010R1000; Description: CAP TANT 15UF 10V 10% 1206; Tolerance: 10%; ESR (Equivalent Series Resistance): 1R; Ripple Current: 110uA; Leakage Current: 1.5uA; Dissipation Factor: 6%; Polarity: Polar; Supplier 1: Digi-Key; RoHS: Yes; Stock 1: 4016; Pricing 1: 1 = 0.48000, 10 = 0.33300, 100 = 0.19980, 500 = 0.14986, 1000 = 0.12654 (USD); Mount: Surface Mount,PCB; Case/Package: 1206; Number of Pins: 2; Weight: 0.000571oz; Case Code (Metric): 3216; Case Code (Imperial): 1206; Dielectric Material: Tantalum; Min Operating Temperature: -55°C; Max Operating Temperature: 125°C; Packaging: Tape and Reel; Voltage Rating (DC): 10V; Package Quantity: 1; Termination: SMD/SMT; Voltage: 10V; Features: General Purpose; Length: 3.2mm; Height: 1.6mm; Width: 1.6mm; Height - Seated (Max): 0.071inch; Depth: 1.6mm; Radiation Hardening: No; REACH SVHC: No SVHC; Lead Free: Lead Free; ComponentLink1URL: https://datasheet.ciiva.com/11793/0900766b80962b61-11793618.pdf?src-supplier=RSComponents; ComponentLink1Description: https://datasheet.ciiva.com/11793/0900766b80962b61-11793618.pdf?src-supplier=RSComponents; ComponentLink2URL: https://datasheet.ciiva.com/19467/2019434-19467308.pdf?src-supplier=Jameco; ComponentLink2Description: https://datasheet.ciiva.com/19467/2019434-19467308.pdf?src-supplier=Jameco; ComponentLink3URL: https://datasheet.ciiva.com/263/tps-263720.pdf?src-supplier=Digi-Key; ComponentLink3Description: https://datasheet.ciiva.com/263/tps-263720.pdf?src-supplier=Digi-Key; ComponentLink4URL: https://datasheet.ciiva.com/263/tps-263721.pdf?src-supplier=Digi-Key; ComponentLink4Description: https://datasheet.ciiva.com/263/tps-263721.pdf?src-supplier=Digi-Key; ComponentLink5URL: https://datasheet.ciiva.com/7914/1680477-7914730.pdf?src-supplier=Element14; ComponentLink5Description: https://datasheet.ciiva.com/7914/1680477-7914730.pdf?src-supplier=Element14; ComponentLink6URL: https://datasheet.ciiva.com/263/tps-263722.pdf?src-supplier=Digi-Key; ComponentLink6Description: https://datasheet.ciiva.com/263/tps-263722.pdf?src-supplier=Digi-Key; ComponentLink7URL: https://datasheet.ciiva.com/3004/tps-3004586.pdf?src-supplier=Avnet; ComponentLink7Description: https://datasheet.ciiva.com/3004/tps-3004586.pdf?src-supplier=Avnet; ComponentLink8URL: https://datasheet.ciiva.com/12911/tps-23028-12911578.pdf?src-supplier=Mouser; ComponentLink8Description: https://datasheet.ciiva.com/12911/tps-23028-12911578.pdf?src-supplier=Mouser; ComponentLink9URL: https://datasheet.ciiva.com/14596/70001047-14596906.pdf?src-supplier=Allied+Electronics; ComponentLink9Description: https://datasheet.ciiva.com/14596/70001047-14596906.pdf?src-supplier=Allied+Electronics; ComponentLink10URL: https://datasheet.ciiva.com/7914/1680477-7914731.pdf?src-supplier=Element14; ComponentLink10Description: https://datasheet.ciiva.com/7914/1680477-7914731.pdf?src-supplier=Element14; ComponentLink11URL: https://datasheet.ciiva.com/7914/1680477-7914732.pdf?src-supplier=Element14; ComponentLink11Description: https://datasheet.ciiva.com/7914/1680477-7914732.pdf?src-supplier=Element14; Supplier Part Number 1: 478-1752-1-ND
footprint 1206_MD_CAP_Width_MOD
pins: 1, 2